# Altium schematic symbol library misc.SchLib: 29 symbols
Pins are listed as number, name and electrical type; pins without a type are passive.

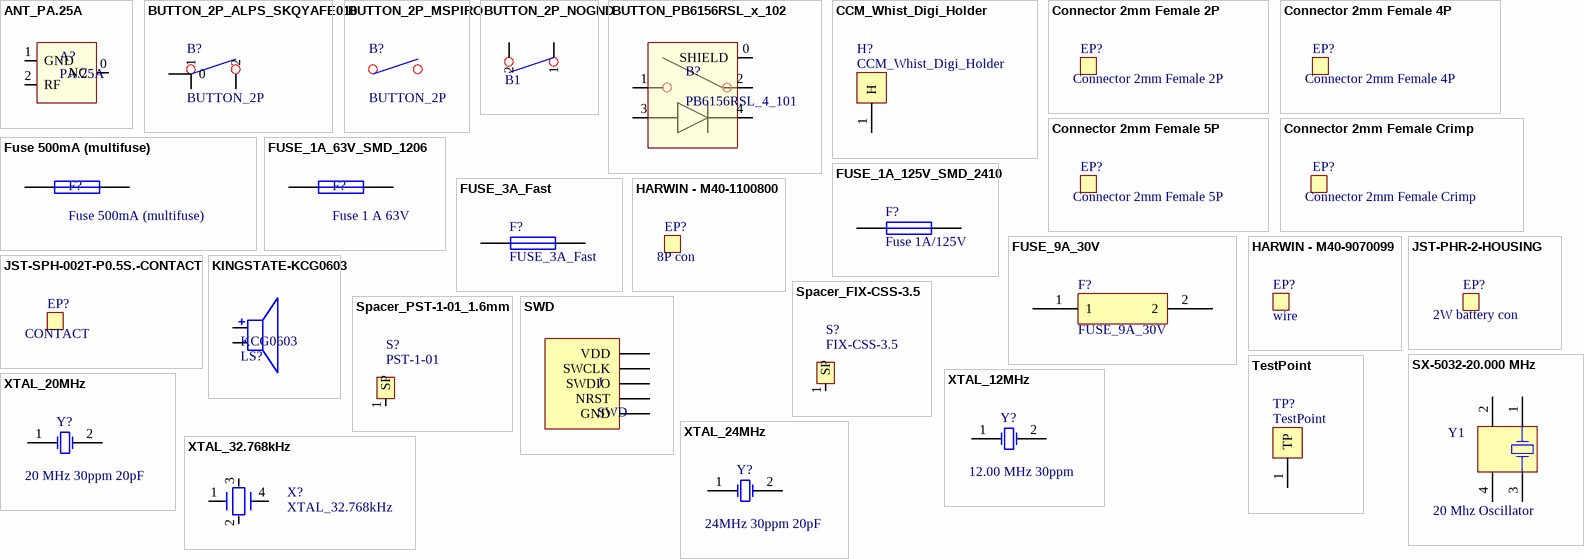
[diagram p0: symbols ANT_PA.25A to XTAL_32.768kHz]

## ANT_PA.25A
designator A?, comment PA.25A
ANTENNA 6-BAND SMT; Order ID: 931-1060-1-ND; Distributor: Digikey; Price: 2700; Value: PA.25A
footprint ANTENNA_PA.25A (Gsm antenna smd. ANTENNA 6-BAND SMT)
pins: 0 NC, 1 GND, 2 RF

## BUTTON_2P_ALPS_SKQYAFE010
designator B?, comment BUTTON_2P
ALPS - SKQYAFE010 - SWITCH, TACTILE, SMD, 3.14N; Order ID: 1656438; Distributor: Farnell; Price: 111; Value: ALPS - SKQYAFE010
footprint ALPS_SKQA (ALPS tact switch.)
pins: 0, 1, 2

## BUTTON_2P_MSPIRO
designator B?, comment BUTTON_2P
TACT 6x 6 4P SPST 2 TS-662 (THL) 50mA 12VDC H=5mm 180g [45-08-64]; Distributor: Lomex; Order ID: 45-08-64; Price: 15; Value: TS-662

## BUTTON_2P_NOGND
designator B1  (value not drawn)
Push button.; Order ID: 1333655; Value: OMRON B3U-3000P; Distributor: Farnell; Price: 183
footprint OMRON_B3U_3000P (Ultra small tactile switch.)
pins: 1, 2

## BUTTON_PB6156RSL_x_102
designator B?, comment PB6156RSL_4_101
PB6156RSL_4_102 button with led.; Order ID: PB6156RSL-4-102; Distributor: TME; Value: PB6156RSL_4_102; Price: 470
footprint PB6156RSL_x_102 (Monostable push button with led.)
pins: 0 SHIELD, 1 SWP, 2 SWN, 3 LEDA, 4 LEDK

## CCM_Whist_Digi_Holder
designator H?
CCM Holder
footprint CCM_WH_DIGIHOLDER (CCM Whistler digital PCB holder footprint.)
pins: 1 H
2 alternate drawings of the same symbol

## Connector 2mm Female 2P
designator EP?
TÁPCSATL. 2.00mm 2P ANYA HÁZ NCH200S-02 (G-S) [43-17-34]; Distributor: Lomex; Order ID: 43-17-34; Price: 3; Value: Connector 2mm Female 2P

## Connector 2mm Female 4P
designator EP?
TÁPCSATL. 2.00mm 4P ANYA HÁZ NCH200S-04 (G-S) [43-17-40]; Distributor: Lomex; Order ID: 43-17-40; Price: 3; Value: Connector 2mm Female 4P

## Connector 2mm Female 5P
designator EP?
TÁPCSATL. 2.00mm 5P ANYA HÁZ NCH200S-05 (G-S) [43-00-26]; Distributor: Lomex; Order ID: 43-00-26; Price: 3; Value: Connector 2mm Female 5P

## Connector 2mm Female Crimp
designator EP?
TÁPCSATL. 2.00mm ANYA CRIMP. NCT200S-T2430 (G-S) AWG24-30 [43-00-25]; Distributor: Lomex; Order ID: 43-00-25; Price: 1.5; Value: Connector 2mm Female Crimp

## Fuse 500mA (multifuse)
designator F?
Resettable Fuses - PPTC 0.50A 15V 0.15ohm; Order ID: 652-MF-MSMF050-2; Distributor: Mouser; Price: 60; Value: Fuse 500mA
footprint 1812_Fuse
pins: 1, 2

## FUSE_1A_63V_SMD_1206
designator F?, comment Fuse 1 A 63V
1 A 63V 0466001.NR VERY FAST SMD 1206 (LFS) ˝H˝ [44-01-78]; Distributor: Lomex; Order ID: 44-01-78; Price: 22; Value: Fuse 1 A 63V
footprint 1206_FUSE
pins: 1, 2

## FUSE_1A_125V_SMD_2410
designator F?, comment Fuse 1A/125V
1 A 125V 0451001.MRL SMD 2410 VERY FAST (LFS) GOLD PLATED CAP NANO2 [44-02-66]; Distributor: Ret; Order ID: 44-02-66; Price: 26.10; Value: Fuse 1A/125V
footprint 2410_FUSE (SMD 2410 Fuse body: 6.9x2.69x2.69mm (LxWxH))
pins: 1, 2

## FUSE_3A_Fast
designator F?
3 A 125V 0451003.MRL SMD 2410 VERY FAST (LFS) GOLD PLATED CAP NANO2 [44-02-68]; Value: 3A Fast; Distributor: Lomex; Order ID: 44-02-68; Price: 25
footprint 2410_FUSE (SMD 2410 Fuse body: 6.9x2.69x2.69mm (LxWxH))
pins: 1, 2

## FUSE_9A_30V
designator F?
9 A 30V MF-R900 MULTIFUSE 24.1x24.1mm (BOU) [44-01-14]; Distributor: Lomex; Order ID: 44-01-14; Price: 65; Value: FUSE_9A_30V
footprint Fuse_Axial_10.5mm_0.9mm
pins: 1, 2

## HARWIN - M40-1100800
designator EP?, comment 8P con
HARWIN - M40-1100800 - RECEPTACLE HOUSING, 8WAY; Order ID: 8728909; Distributor: Farnell; Price: 60; Value: M40-1100800

## HARWIN - M40-9070099
designator EP?, comment wire
HARWIN - M40-9070099 - LEAD, SKT/SKT, 32AWG, 300MM; Order ID: 8729239; Distributor: Farnell; Price: 153; Value: M40-9070099

## JST-PHR-2-HOUSING
designator EP?, comment 2W battery con
JST (JAPAN SOLDERLESS TERMINALS) - PHR-2 - HOUSING, 2WAY, 2MM; Order ID: 3616186; Distributor: Farnell; Price: 12; Value: PHR-2 - HOUSING, 2WAY, 2MM

## JST-SPH-002T-P0.5S.-CONTACT
designator EP?, comment CONTACT
JST (JAPAN SOLDERLESS TERMINALS) - SPH-002T-P0.5S. - CONTACT, LOOSE PIECE, 0.05-0.22MM; Order ID: 3617210; Value: BPH-002T-P0.5S - CONTACT; Distributor: Farnell; Price: 9

## KINGSTATE-KCG0603
designator LS?, comment KCG0603
KINGSTATE - KCG0603 - BUZZER, MAGNETIC, PIN, 85DB, 3V; Order ID: 2215077; Distributor: Farnell; Value: KCG0603; Price: 290
footprint BUZZER
footprint HDR1X2
footprint BUZZER_65_45 (Ext drive piezzo buzzer.)
pins: 1, 2
2 alternate drawings of the same symbol

## Spacer_FIX-CSS-3.5
designator S?, comment FIX-CSS-3.5
Spacer FIX-CSS-3.5; Distributor: TME; Order ID: FIX-CSS-3.5; Price: 35; Value: FIX-CSS-3.5
footprint Spacer_FIX-CSS-3.5 (Spacer FIX-CSS-3.5)
pins: 1 SP
2 alternate drawings of the same symbol

## Spacer_PST-1-01_1.6mm
designator S?, comment PST-1-01
Richco Spacer_PST-1-01_1.6mm; Order ID: 663-3460; Distributor: rs-online; Price: 54; Value: PST-1-01
footprint Spacer_PST-1-01_1.6mm (Spacer PST-1-01)
pins: 1 SP
2 alternate drawings of the same symbol

## SWD
designator J
STM SWD PROGRAMMER CONNECTOR
footprint HDR1X5
pins: 1 VDD, 2 SWCLK, 3 GND, 4 SWDIO, 5 NRST

## SX-5032-20.000 MHz
designator Y1  value 20 Mhz Oscillator
SX-5032-20.000 MHz, 12 pF Kvarc, SMD 5.0x3.2 mm; Order ID: SIW002; Distributor: Chipcad; Price: 110
footprint 5032_SMD (Crystal package.)
pins: 1 OSC1, 2 NC, 3 OSC2, 4 NC
2 alternate drawings of the same symbol

## TestPoint
designator TP?
Test Point
footprint TestPoint
pins: 1 TP
2 alternate drawings of the same symbol

## XTAL_12MHz
designator Y?  value 12.00 MHz 30ppm  (hidden comment: XTAL_12MHz)
12.000000MHz QUARZ HC49/SMD (NSK) ˝30ppm LOW PROFILE SMD [40-01-25]; Distributor: Lomex; Order ID: 40-01-25; Price: 33.96
footprint HC49/4H_SMX (Quartz Crystal, SM; Body 13.4 (inc. leads) x 4.9 mm (LxW max))
footprint NXK-32
pins: 1 OSC1, 2 OSC2

## XTAL_20MHz
designator Y?  value 20 MHz 30ppm 20pF  (hidden comment: XTAL_20MHz)
20.000000MHz QUARZ HC49/SMD (NSK) ˝30ppm 20pF LOW PROFILE SMD [40-01-27]; Distributor: Lomex; Order ID: 40-01-27; Price: 32.25
footprint HC49/4H_SMX (Quartz Crystal, SM; Body 13.4 (inc. leads) x 4.9 mm (LxW max))
pins: 1 OSC1, 2 OSC2

## XTAL_24MHz
designator Y?  value 24MHz 30ppm 20pF  (hidden comment: XTAL_24MHz)
24.000000 MHz QUARZ HC49/SMD (TXC) ˝30ppm 20pF LOW PROFILE SMD ł [40-02-12]; Distributor: Lomex; Order ID: 40-02-12; Price: 18.32
footprint HC49/4H_SMX (Quartz Crystal, SM; Body 13.4 (inc. leads) x 4.9 mm (LxW max))
pins: 1 OSC1, 2 OSC2

## XTAL_32.768kHz
designator X?
32.768kHz QUARZ NXZ32.768KAE125F-KAB3 8x3.2x2.5mm (NSK) ÓRAQUARTZ SMD 4-PIN 20ppm 12.5pF [40-02-49]; Value: QUARZ ACT200A; Distributor: Lomex; Order ID: 40-02-49; Price: 22.8
footprint ACT200A_FP (Quartz case.)
pins: 1, 2, 3, 4